# EAGLE library part ESP-12E/F (library ESP-RGB)
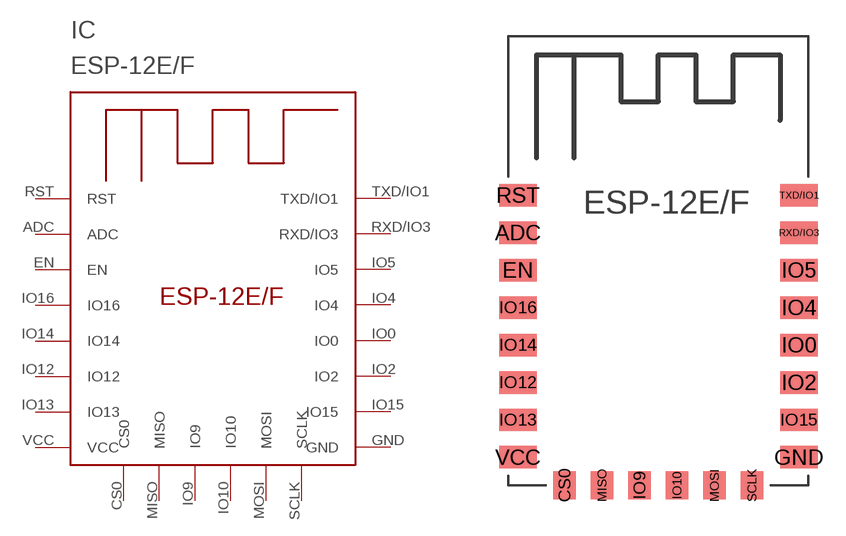
[diagram p0: symbol with the pads of ESP-12E; footprint ESP-12E]

Designator prefix IC

## ESP-12E/F  [ESP-12E]
ADC  ADC
CS0  CS0
EN  EN
GND  GND  pwr
IO0  IO0
IO2  IO2
IO4  IO4
IO5  IO5
IO9  IO9
IO10  IO10
IO12  IO12
IO13  IO13
IO14  IO14
IO15  IO15
IO16  IO16
MISO  MISO
MOSI  MOSI
RST  RST  in
RXD/IO3  RXD/IO3
SCLK  SCLK
TXD/IO1  TXD/IO1
VCC  VCC  pwr

## Footprint ESP-12E (pad centres in mm)
smd 2 x 1.2: ADC -7.46,5.53; EN -7.46,3.53; GND 7.54,-6.47; IO0 7.54,-0.47; IO2 7.54,-2.47; IO4 7.54,1.53; IO5 7.54,3.53; IO12 -7.46,-2.47; IO13 -7.46,-4.47; IO14 -7.46,-0.47; IO15 7.54,-4.47; IO16 -7.46,1.53; RST -7.46,7.53; RXD/IO3 7.54,5.53; TXD/IO1 7.54,7.53; VCC -7.46,-6.47
smd 1.2 x 1.5: CS0 -4.96,-7.97; IO9 -0.96,-7.97; IO10 1.04,-7.97; MISO -2.96,-7.97; MOSI 3.04,-7.97; SCLK 5.04,-7.97